# Altium footprint library SM5819PL-TP.PcbLib: 3 footprints
Each footprint in its own frame and in the unit in brackets; x right, y up, seen from the top. Pads: shape width x height; smd on the part's side, far side on the other; paste and mask are expansions set on the pad; w line width, h text height; cw(c..) or ccw(c..) is an arc to the next point about the centre after c.
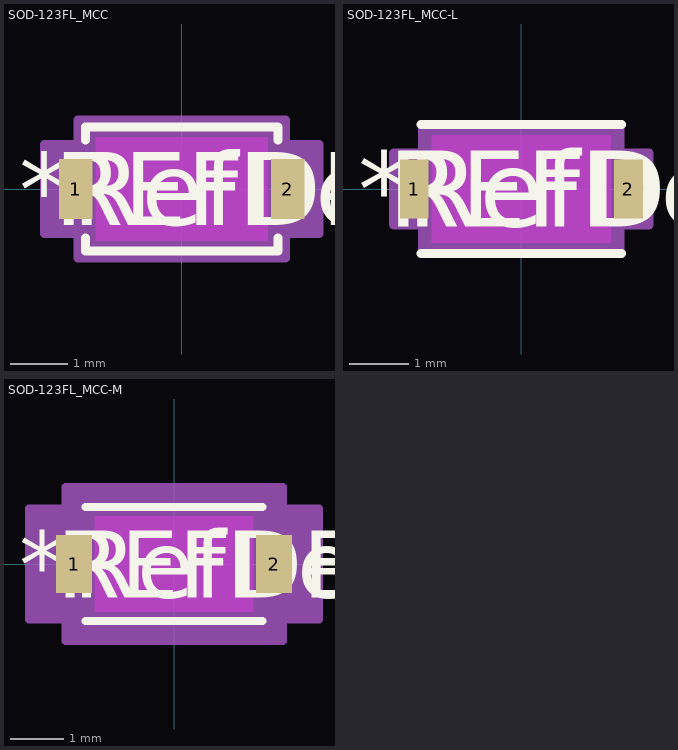
[diagram p0: the footprints below, top view; thin cyan lines are the x and y axes]

## SOD-123FL_MCC [mil]
pads (2):
  rect 23x41 smd paste+0 mask+0: 1(-72.5,0) 2(72.5,0)
Top Layer keep-out:
  region: -59,-35.5 -59,35.5 59,35.5 59,-35.5
Top Overlay:
  lines w6: -66,-33.6 -66,-42.5 66,-42.5 66,-33.6 ; -66,33.6 -66,42.5 66,42.5 66,33.6
  text "REFDES" at -87.5,-25 h50
  text "*" at -111.5,-25 h50
  text "RefDes" at -75,-25 h50
Keep-Out Layer:
  region: -59,-35.5 -59,35.5 59,35.5 59,-35.5
Mechanical 13:
  lines w1: -61,-18.75 -42.25,-37.5 ; -61,18.75 -42.25,37.5 ; -76,-20.5 -76,20.5 -61,20.5 -61,-20.5 -76,-20.5 ; -61,-37.5 61,-37.5 61,37.5 -61,37.5 -61,-37.5 ; 61,-20.5 61,20.5 76,20.5 76,-20.5 61,-20.5
  text "*" at -63.5,-25 h50
  text "RefDes2" at -87.5,-25 h50
Mechanical 15:
  region: -71,-30.5 -94,-30.5 -94,30.5 -71,30.5 -71,47.5 71,47.5 71,30.5 94,30.5 94,-30.5 71,-30.5 71,-47.5 -71,-47.5
  lines w6: -94,-30.5 -94,30.5 -71,30.5 -71,47.5 71,47.5 71,30.5 94,30.5 94,-30.5 71,-30.5 71,-47.5 -71,-47.5 -71,-30.5 -94,-30.5
3D body "SOD-123FL_MCC.step": height 75.24, standoff 0, extent -75.98,-37.48 75.98,37.48

## SOD-123FL_MCC-L [mil]
pads (2):
  rect 19x39 smd paste+0 mask+0: 1(-70.5,0) 2(70.5,0)
Top Layer keep-out:
  region: -59,-35.5 -59,35.5 59,35.5 59,-35.5
Top Overlay:
  lines w6: -66,-42.5 66,-42.5 ; -66,42.5 66,42.5
  text "REFDES" at -87.5,-25 h50
  text "*" at -107.5,-25 h50
  text "RefDes" at -75,-25 h50
Keep-Out Layer:
  region: -59,-35.5 -59,35.5 59,35.5 59,-35.5
Mechanical 13:
  lines w1: -61,-18.75 -42.25,-37.5 ; -61,18.75 -42.25,37.5 ; -76,-20.5 -76,20.5 -61,20.5 -61,-20.5 -76,-20.5 ; -61,-37.5 61,-37.5 61,37.5 -61,37.5 -61,-37.5 ; 61,-20.5 61,20.5 76,20.5 76,-20.5 61,-20.5
  text "*" at -63.5,-25 h50
  text "RefDes2" at -87.5,-25 h50
Mechanical 15:
  region: -65,-23.5 -84,-23.5 -84,23.5 -65,23.5 -65,41.5 65,41.5 65,23.5 84,23.5 84,-23.5 65,-23.5 65,-41.5 -65,-41.5
  lines w6: -84,-23.5 -84,23.5 -65,23.5 -65,41.5 65,41.5 65,23.5 84,23.5 84,-23.5 65,-23.5 65,-41.5 -65,-41.5 -65,-23.5 -84,-23.5
3D body "SOD-123FL_MCC.step": height 75.24, standoff 0, extent -75.98,-37.48 75.98,37.48

## SOD-123FL_MCC-M [mil]
pads (2):
  rect 27x43 smd paste+0 mask+0: 1(-74.5,0) 2(74.5,0)
Top Layer keep-out:
  region: -59,-35.5 -59,35.5 59,35.5 59,-35.5
Top Overlay:
  lines w6: -66,-42.5 66,-42.5 ; -66,42.5 66,42.5
  text "REFDES" at -87.5,-25 h50
  text "*" at -115.5,-25 h50
  text "RefDes" at -75,-25 h50
Keep-Out Layer:
  region: -59,-35.5 -59,35.5 59,35.5 59,-35.5
Mechanical 13:
  lines w1: -61,-18.75 -42.25,-37.5 ; -61,18.75 -42.25,37.5 ; -76,-20.5 -76,20.5 -61,20.5 -61,-20.5 -76,-20.5 ; -61,-37.5 61,-37.5 61,37.5 -61,37.5 -61,-37.5 ; 61,-20.5 61,20.5 76,20.5 76,-20.5 61,-20.5
  text "*" at -63.5,-25 h50
  text "RefDes2" at -87.5,-25 h50
Mechanical 15:
  region: -81,-41.5 -108,-41.5 -108,41.5 -81,41.5 -81,57.5 81,57.5 81,41.5 108,41.5 108,-41.5 81,-41.5 81,-57.5 -81,-57.5
  lines w6: -108,-41.5 -108,41.5 -81,41.5 -81,57.5 81,57.5 81,41.5 108,41.5 108,-41.5 81,-41.5 81,-57.5 -81,-57.5 -81,-41.5 -108,-41.5
3D body "SOD-123FL_MCC.step": height 75.24, standoff 0, extent -75.98,-37.48 75.98,37.48